# Altium footprint library GH1.25.PcbLib: 1 footprints
Each footprint in its own frame and in the unit in brackets; x right, y up, seen from the top. Pads: shape width x height; smd on the part's side, far side on the other; paste and mask are expansions set on the pad; w line width, h text height; cw(c..) or ccw(c..) is an arc to the next point about the centre after c.
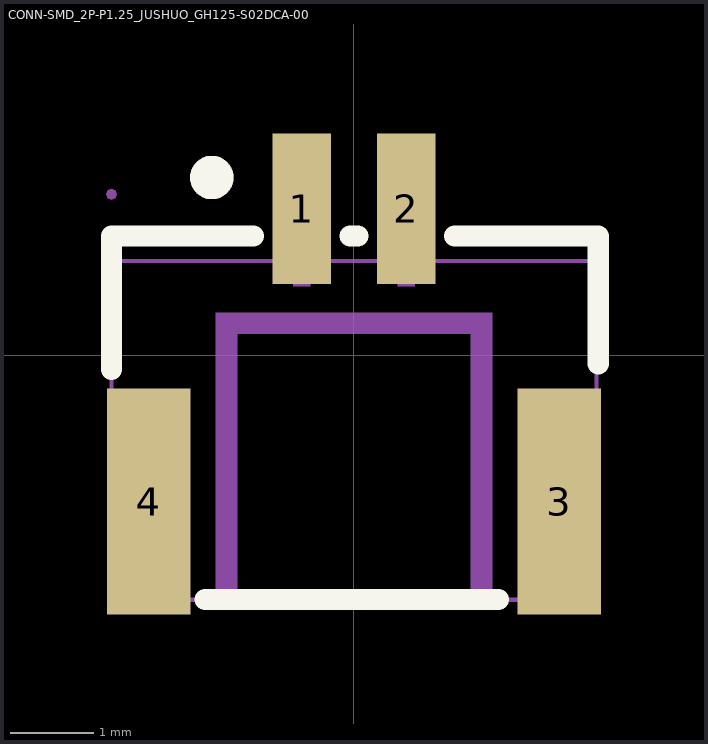
[diagram p0: the footprint, top view; thin cyan lines are the x and y axes]

## CONN-SMD_2P-P1.25_JUSHUO_GH125-S02DCA-00 [mm]
pads (4):
  rect 0.7x1.8 smd paste+0 mask+0.05: 1(-0.625,1.75) 2(0.625,1.75)
  rect 1x2.7 smd paste+0 mask+0.05: 3(2.455,-1.75) 4(-2.455,-1.75)
Top Overlay:
  circle w0.26: c-1.7,2.125 r0.13
  lines w0.254: -2.9,-0.169 -2.9,-0.119 -2.9,1.425 -1.206,1.425 ; -1.778,-2.921 1.724,-2.921 ; -0.044,1.425 0.044,1.425 ; 1.206,1.425 2.921,1.422 2.921,-0.102
Mechanical 6:
  circle w0.26: c-1.7,2.125 r0.13
  region: -1.651,-2.794 -1.651,0.508 1.651,0.508 1.651,-2.794 1.397,-2.794 1.397,0.254 -1.397,0.254 -1.397,-2.794
Mechanical 15:
  region: -2.835,1.924 -2.854,1.97 -2.9,1.989 -2.946,1.97 -2.965,1.924 -2.946,1.878 -2.9,1.859 -2.854,1.878 -2.835,1.924
  region: 0.525,1.924 0.725,1.924 0.725,0.824 0.525,0.824
  region: -0.725,1.924 -0.525,1.924 -0.525,0.824 -0.725,0.824
  region: -2.555,-0.83 -2.355,-0.83 -2.355,-2.67 -2.555,-2.67
  region: 2.355,-0.83 2.555,-0.83 2.555,-2.67 2.355,-2.67
  lines w0.051: -2.9,-2.924 -2.9,1.126 2.9,1.126 2.9,-2.924 -2.9,-2.924